# EAGLE library part OMAT_IC_2_AO4803A (library cpu)
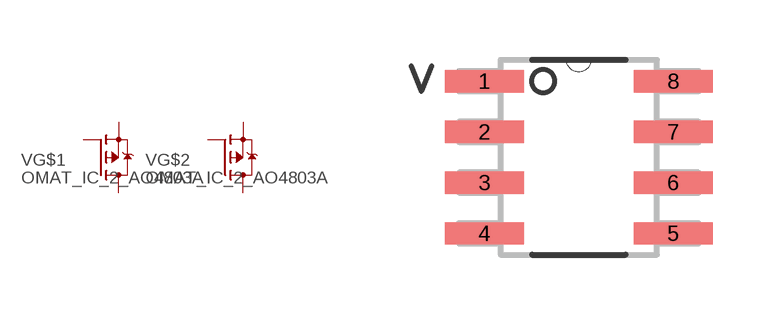
[diagram p1: symbol with the pads of OMAT_IC_2_SOIC8-N_MC; footprint OMAT_IC_2_SOIC8-N_MC]

Designator prefix V; gates G$1=OMAT_IC_2_P-MOSFET G$2=OMAT_IC_2_P-MOSFET

## OMAT_IC_2_AO4803A  [OMAT_IC_2_SOIC8-N_MC]
1  G$2:S  pas
2  G$2:G  pas
3  G$1:S  pas
4  G$1:G  pas
5  G$1:D  pas
6  G$1:D  pas
7  G$2:D  pas
8  G$2:D  pas

## Footprint OMAT_IC_2_SOIC8-N_MC (pad centres in mm)
smd 1.981 x 0.559: 1 -2.362,1.905; 2 -2.362,0.635; 3 -2.362,-0.635; 4 -2.362,-1.905; 5 2.362,-1.905; 6 2.362,-0.635; 7 2.362,0.635; 8 2.362,1.905